# Altium schematic symbol library Inductors.SchLib: 20 symbols
Pins are listed as number, name and electrical type; pins without a type are passive.

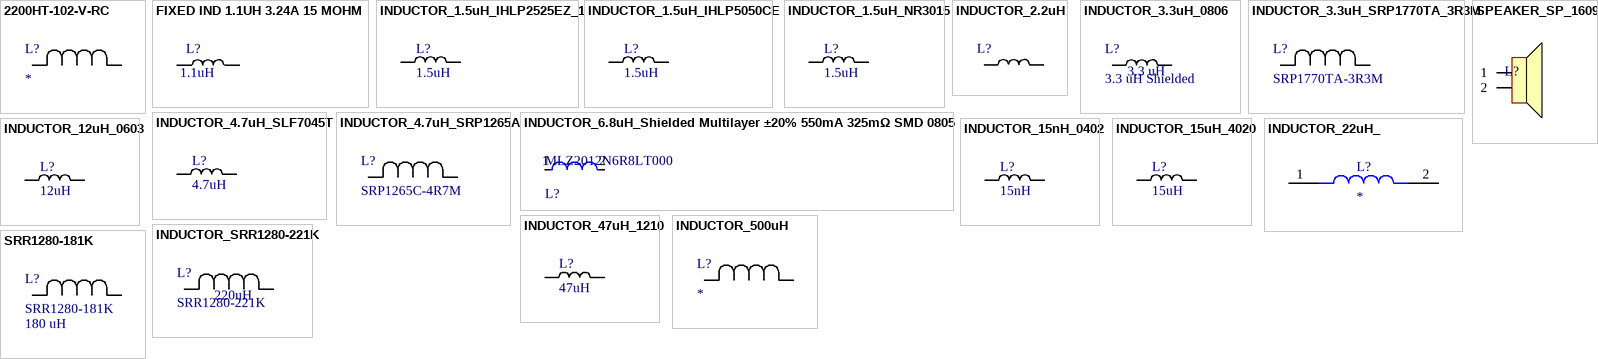
[diagram p0: symbols 2200HT-102-V-RC to SRR1280-181K]

## 2200HT-102-V-RC
designator L?
1 mH Shielded Toroidal Inductor 1.9 A 490mOhm Max Radial, Vertical (Open); Mfr_Name: Bourns Electronics
footprint IND_2200HT-V_49_22
pins: 1, 2

## FIXED IND 1.1UH 3.24A 15 MOHM
designator L?, comment value 1.1uH  (hidden comment: TCK-078)
1.1 µH Unshielded Inductor 3.24 A 15mOhm Max Nonstandard
footprint INDUCTOR_TCK078 (1.1 µH Unshielded Inductor 3.24 A 15mOhm Max Nonstandard)
pins: 1, 2

## INDUCTOR_1.5uH_IHLP2525EZ_1
designator L?, comment value 1.5uH  (hidden comment: 1.5uH Shielded)
Inductor Shielded 1.5uH 12A +/-20%; Made By: Robert Pafford; DC Resistance: 9mOhm; Tolerance: +/- 20%; Current Rating: 12A; Supplier 1: Digikey; Supplier Part Number 1: 541-4344-1-ND
footprint IHLP2525EZ
pins: 1, 2

## INDUCTOR_1.5uH_IHLP5050CE
designator L?, comment value 1.5uH  (hidden comment: 1.5uH Shielded)
Inductor Shielded 1.5uH 19A +/-30%; Tolerance: +/- 20%; Made By: Robert Pafford; DC Resistance: 5.5mOhm; Current Rating: 19A; Supplier 1: Digikey; Supplier Part Number 1: 541-1018-1-ND
footprint IHLP5050CE
pins: 1, 2

## INDUCTOR_1.5uH_NR3015
designator L?, comment value 1.5uH  (hidden comment: 1.5uH Shielded)
Inductor Shielded 1.5uH 1.8A +/-30%; Made By: Robert Pafford; DC Resistance: 48mOhm; Tolerance: +/- 30%; Current Rating: 1.8A; Supplier 1: Digi-Key; Supplier Part Number 1: 587-2617-1-ND
footprint INDUCTOR_NR3015 (NR3015 Series Inductor Footprint)
pins: 1, 2

## INDUCTOR_2.2uH
designator L?, comment 2.2uH Shielded  (value not drawn)
2.2 µH Shielded Drum Core, Wirewound Inductor 4.3 A 48mOhm Max Nonstandard; Supplier 1: DigiKey; Supplier Part Number 1: 553-3290-1-ND; Value: 2.2uH
footprint PA4332.222NLT
pins: 1, 2

## INDUCTOR_3.3uH_0806
designator L?, comment 3.3 uH Shielded  value 3.3 uH
3.3 µH Shielded Molded Inductor 2.1 A 140mOhm Max 0806 (2016 Metric); Manufacturer: Abracon LLC; Supplier 1: DigiKey; Supplier Part Number 1: 535-AOTA-B201610S3R3-101-TDKR-ND; Created By: John Ulm
footprint INDUCTOR_0806
pins: 1, 2

## INDUCTOR_3.3uH_SRP1770TA_3R3M
designator L?, comment SRP1770TA-3R3M
3.3 µH Shielded Drum Core, Wirewound Inductor 28 A 3.9mOhm Max Nonstandard; Mfr_Name: Bourns Electronics; Manufacturer_Part_Number: SRP1265C-4R7M; Type: DEV; Copyright: Copyright (C) 2023 Ultra Librarian. All rights reserved.; RefDes: RefDes; Supplier 1: Newark; Supplier Part Number 1: 58Y3764
footprint INDUCTOR_SRP1770TA-3R3M_BRN
pins: 1, 2

## INDUCTOR_4.7uH_SLF7045T
designator L?, comment value 4.7uH  (hidden comment: 4.7uH Shielded Drum Core)
4.7 µH Shielded Drum Core, Wirewound Inductor 2.1 A 36mOhm Max Nonstandard; Tolerance: +/- 20%; Made By: Robert Pafford; Current Rating: 2.1A; DC Resistance: 36mOhm; Supplier 1: Digikey; Supplier Part Number 1: 445-2026-1-ND
footprint INDUCTOR_SLF7045
pins: 1, 2

## INDUCTOR_4.7uH_SRP1265A
designator L?, comment SRP1265C-4R7M
4.7 µH Shielded Inductor 20 A 9.5mOhm Max Nonstandard; Mfr_Name: Bourns Electronics; Type: DEV; Copyright: Copyright (C) 2023 Ultra Librarian. All rights reserved.; Manufacturer_Part_Number: SRP1265C-4R7M; RefDes: RefDes; Supplier 1: Newark; Supplier Part Number 1: 69AH2575
footprint IND_SRP1265A-LF_BRN
pins: 1, 2

## INDUCTOR_6.8uH_Shielded Multilayer ±20% 550mA 325mΩ SMD 0805
designator L?, comment MLZ2012N6R8LT000
Shielded Multilayer Inductor 6.8uH ±20% 550mA 325mΩ SMD 0805; Test Frequency: 2MHz; Self Resonant Frequency: 60MHz; Saturation Current: 110mA; Core Material: Ferrite; DC Resistance (DCR): 250mR; Current Rating: 550mA; Case/Package: 0805; Height - Seated (Max): 0.057inch; Lead Free: Lead Free; Mount: Surface Mount; Max Operating Temperature: 125°C; Length: 0.079inch; Min Operating Temperature: -55°C; RoHS Compliant: Yes; Case Code (Imperial): 0805; Shielding: Shielded; Tolerance: 20%; Width: 0.049inch; Inductance: 6.8uH; Packaging: Tape and Reel; Package Quantity: 1; Case Code (Metric): 2012
footprint INDUCTOR_0805
pins: 1, 2

## INDUCTOR_12uH_0603
designator L?, comment value 12uH  (hidden comment: FIXED IND 12UH 10MA 1.8 OHM SMD)
12 µH Shielded Multilayer Inductor 10 mA 1.8Ohm Max 0603 (1608 Metric); Tolerance: +/- 20%; Made By: Robert Pafford; DC Resistance: 36mOhm; Current Rating: 2.1A; Supplier 1: Arrow Electronics; Supplier Part Number 1: MLF1608E120JTD25
footprint INDUCTOR_0603 (INDUCTOR 0603)
pins: 1, 2

## INDUCTOR_15nH_0402
designator L?, comment value 15nH  (hidden comment: FIXED IND 15NH 250MA 600MOHM SMD)
15 nH Unshielded Multilayer Inductor 250 mA 600mOhm Max 0402 (1005 Metric); Tolerance: +/- 5%
footprint INDUCTOR_0402
pins: 1, 2

## INDUCTOR_15uH_4020
designator L?, comment value 15uH  (hidden comment: 15uH Shielded)
Inductor Shielded 15uH 1.5A +/-20%; Made By: Flip B; DC Resistance: 374mOhm; Tolerance: +/- 20%; ComponentLink1Description: Datasheet; ComponentLink1URL: https://www.bourns.com/docs/Product-Datasheets/SRP4020TA.pdf; Current Rating: 1.5A; Supplier 1: Digi-Key; Supplier Part Number 1: SRP4020TA-150MCT-ND
footprint INDUCTOR_VLC5020T (TDK VLC5020T-150MR90)
pins: 1, 2

## INDUCTOR_22uH_
designator L?
22µH Inductor 3A 135mOhm Max Nonstandard; Value: 22uH; MF: ECS Inc.; MP: ECS-MPIL0630-220MC; Digi-Key_Part_Number: XC2409CT-ND; SnapEDA_Link: https://www.snapeda.com/parts/ECS-MPIL0630-220MC/ECS%20Inc./view-part/3624015/?ref=snap; Check_prices: https://www.snapeda.com/parts/ECS-MPIL0630-220MC/ECS%20Inc./view-part/3624015/?ref=eda; Purchase-URL: https://pricing.snapeda.com/search/part/ECS-MPIL0630-220MC/?ref=eda; Package: Nonstandard ECS Inc.
footprint INDUCTOR_0630-220MC
pins: 1, 2

## INDUCTOR_47uH_1210
designator L?, comment value 47uH  (hidden comment: 47uH Unshielded)
Inductor Unshielded 47uH 390mA +/-20%; Made By: Flip B; DC Resistance: 670mOhm; Tolerance: +/- 20%; ComponentLink1Description: Datasheet; ComponentLink1URL: https://ds.yuden.co.jp/TYCOMPAS/ut/detail?pn=CBC3225T470MR%20%20&u=M; Current Rating: 390mA; Supplier 1: Digi-Key; Supplier Part Number 1: 587-1627-1-ND
footprint INDUCTOR_VLC5020T (TDK VLC5020T-150MR90)
pins: 1, 2

## INDUCTOR_500uH
designator L?
5256-RC | 500 µH Unshielded Drum Core, Wirewound Inductor 2 A 260mOhm Max Axial, Through Hole; Mfr_Name: Bourns Electronics
footprint IND_BOURNS_5256
pins: 1, 2

## INDUCTOR_SRR1280-221K
designator L?, comment SRR1280-221K
220 µH Shielded Drum Core, Wirewound Inductor 1.6 A 400mOhm Max Nonstandard; Mfr_Name: Bourns Electronics; Type: DEV; Copyright: Copyright (C) 2023 Ultra Librarian. All rights reserved.; Manufacturer_Part_Number: SRR1280-221K; RefDes: RefDes; Supplier 1: Digi-Key; Supplier Part Number 1: SRR1280-221KLCT-ND
footprint IND_BOURNS_SRR1280 (220 µH Shielded Drum Core, Wirewound Inductor 1.6 A 400mOhm Max Nonstandard)
pins: 1, 2
text: 220uH

## SPEAKER_SP_1609S
designator L?  (value not drawn)
8 Ohms General Purpose Speaker 700 mW 200 Hz ~ 5 kHz Top Rectangular; Supplier 1: Digi-Key; Supplier Part Number 1: 433-1132-ND
footprint SPEAKER_SP-1609S
pins: 1, 2

## SRR1280-181K
designator L?  value 180 uH
FIXED IND 180UH 1.75A 300 MOHM; Supplier 1: DigiKey; Supplier Part Number 1: SRR1280-181KCT-ND; R: 300 mOhm
footprint SRR1280
pins: 1, 2